# Altium schematic symbol library GSM.SchLib: 6 symbols
Pins are listed as number, name and electrical type; pins without a type are passive.

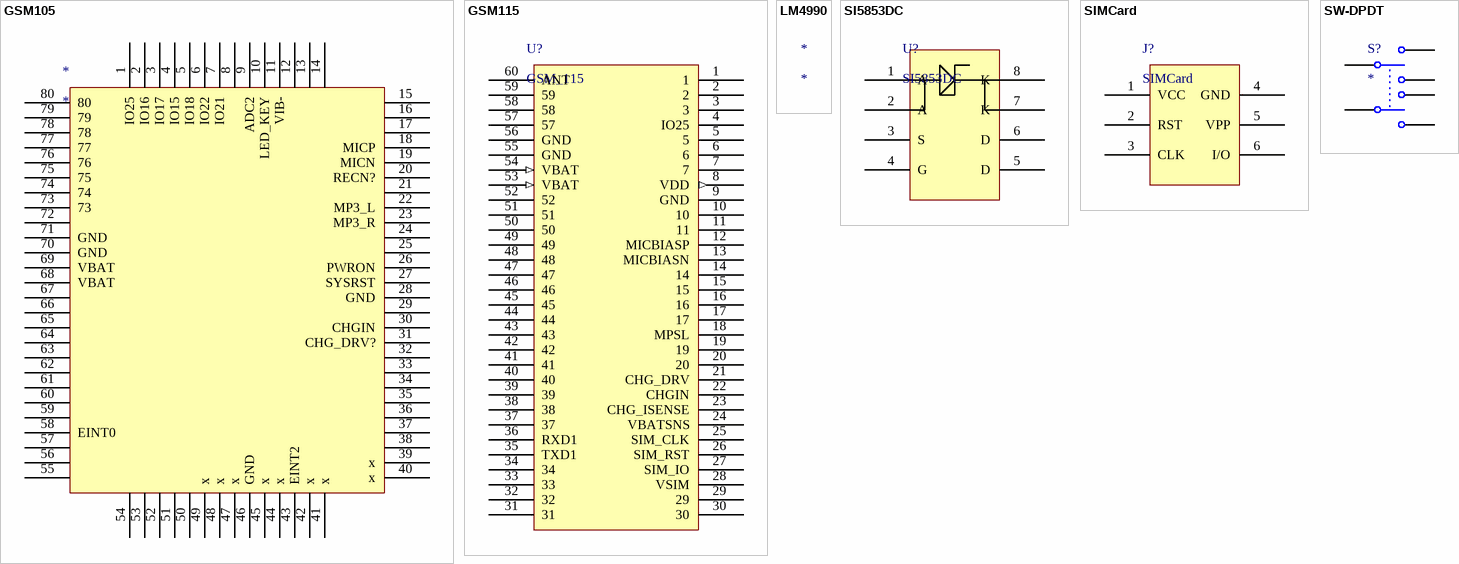
[diagram p0: symbols GSM105 to SW-DPDT]

## GSM105
designator *
pins: 1 IO25, 2 IO16, 3 IO17, 4 IO15, 5 IO18, 6 IO22, 7 IO21, 8, 9 ADC2, 10 LED_KEY, 11 VIB-, 12, 13, 14, 15, 16, 17, 18 MICP, 19 MICN, 20 RECN?, 21, 22 MP3_L, 23 MP3_R, 24, 25, 26 PWRON, 27 SYSRST, 28 GND, 29, 30 CHGIN, 31 CHG_DRV?, 32, 33, 34, 35, 36, 37, 38, 39 x, 40 x, 41 x, 42 x, 43 EINT2, 44 x, 45 x, 46 GND, 47 x, 48 x, 49 x, 50, 51, 52, 53, 54, 55, 56, 57, 58 EINT0, 59, 60, 61, 62, 63, 64, 65, 66, 67, 68 VBAT, 69 VBAT, 70 GND, 71 GND, 72, 73, 74, 75, 76, 77, 78, 79, 80

## GSM115
designator U?, comment GSM_115
pins: 1, 2, 3, 4 IO25, 5, 6, 7, 8 VDD (out), 9 GND, 10, 11, 12 MICBIASP, 13 MICBIASN, 14, 15, 16, 17, 18 MPSL, 19, 20, 21 CHG_DRV, 22 CHGIN, 23 CHG_ISENSE, 24 VBATSNS, 25 SIM_CLK, 26 SIM_RST, 27 SIM_IO, 28 VSIM, 29, 30, 31, 32, 33, 34, 35 TXD1, 36 RXD1, 37, 38, 39, 40, 41, 42, 43, 44, 45, 46, 47, 48, 49, 50, 51, 52, 53 VBAT (in), 54 VBAT (in), 55 GND, 56 GND, 57, 58, 59, 60 ANT

## LM4990
designator *

## SI5853DC
designator U?
pins: 1 A, 2 A, 3 S, 4 G, 5 D, 6 D, 7 K, 8 K

## SIMCard
designator J?
Sim Card
footprint PCB_SIM
pins: 1 VCC, 2 RST, 3 CLK, 4 GND, 5 VPP, 6 I/O

## SW-DPDT
designator S?
Switch for power
pins: 1, 2, 3, 4, 5, 6